# Altium footprint library Pcb_Lib_SMAQ.PcbLib: 13 footprints
Each footprint in its own frame and in the unit in brackets; x right, y up, seen from the top. Pads: shape width x height; smd on the part's side, far side on the other; paste and mask are expansions set on the pad; w line width, h text height; cw(c..) or ccw(c..) is an arc to the next point about the centre after c.
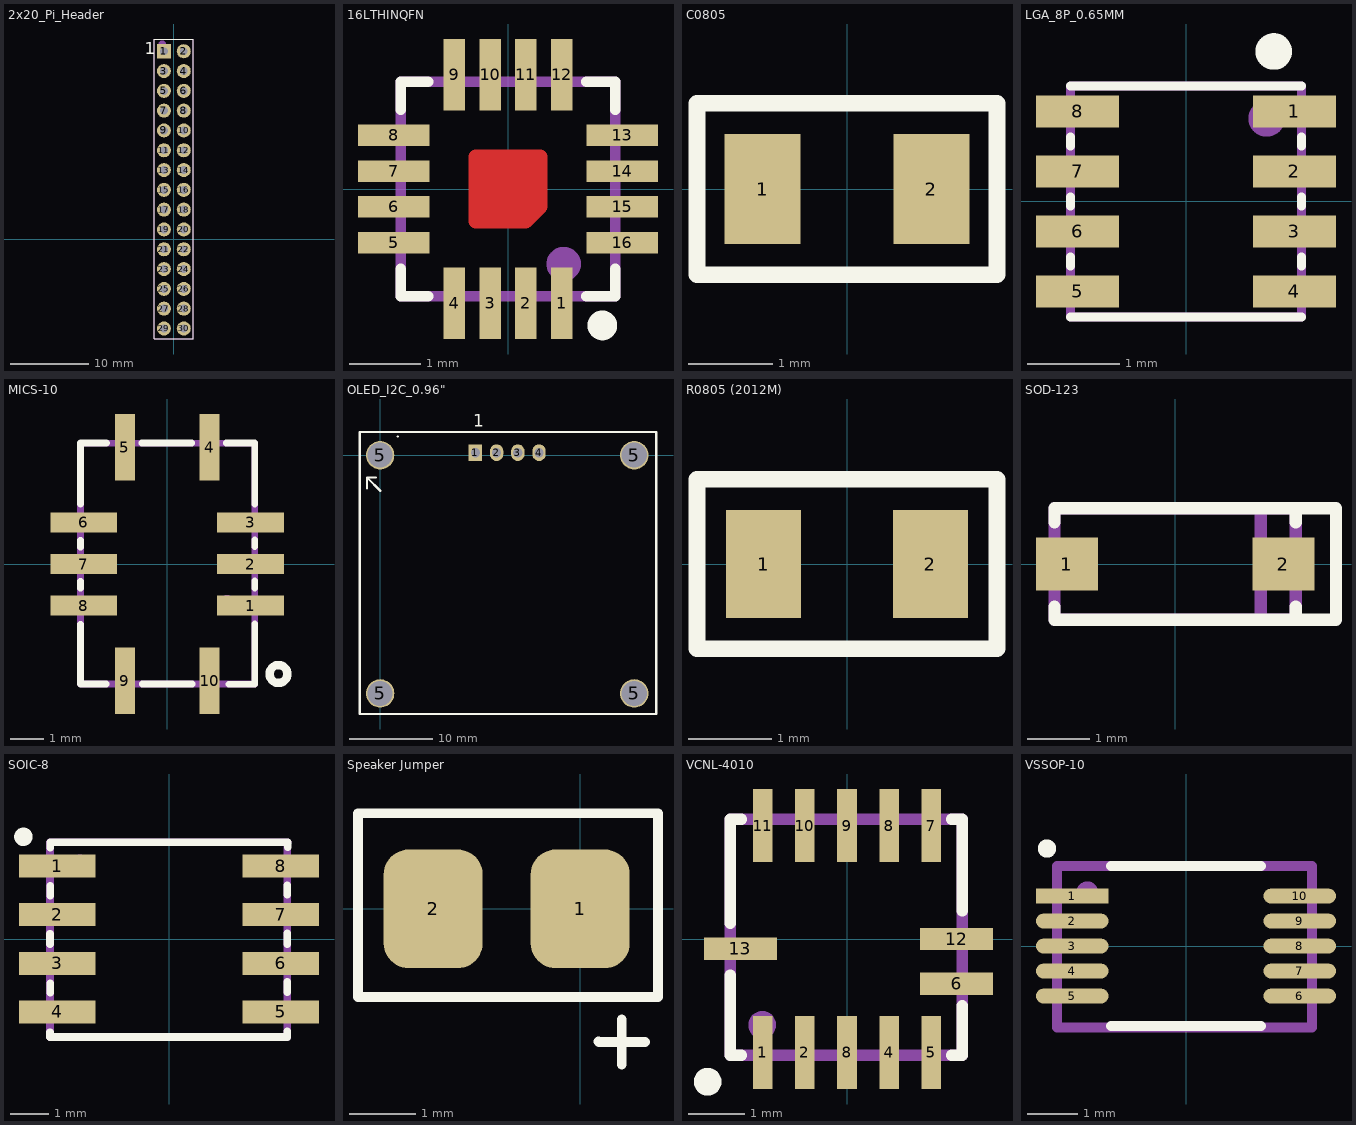
[diagram p0: the footprints below, top view; thin cyan lines are the x and y axes]

## 2x20_Pi_Header [mm]
pads (30):
  rect 1.8x1.8 hole 1.02: 1(-1.27,24.13)
  round 1.8 hole 1.02: 2(1.27,24.13) 3(-1.27,21.59) 4(1.27,21.59) 5(-1.27,19.05) 6(1.27,19.05) 7(-1.27,16.51) 8(1.27,16.51) 9(-1.27,13.97) 10(1.27,13.97) 11(-1.27,11.43) 12(1.27,11.43) 13(-1.27,8.89) 14(1.27,8.89) 15(-1.27,6.35) 16(1.27,6.35) 17(-1.27,3.81) 18(1.27,3.81) 19(-1.27,1.27) 20(1.27,1.27) 21(-1.27,-1.27) 22(1.27,-1.27) 23(-1.27,-3.81) 24(1.27,-3.81) 25(-1.27,-6.35) 26(1.27,-6.35) 27(-1.27,-8.89) 28(1.27,-8.89) 29(-1.27,-11.43) 30(1.27,-11.43)
Top Overlay:
  lines w0.1: -2.5,-12.76 -2.5,25.7 2.5,25.7 2.5,-12.76 -2.5,-12.76
  text "1" at -3.746,23.754 h1.52
Assembly:
  circle w0.7: c-1.5,25 r0.15
  lines w0.1: -2.5,-12.78 2.5,-12.78 2.5,25.7 -2.5,25.7 -2.5,-12.78
  text ".Designator" at 1.576,-7.176 h3
3D body "30Pin.SLDPRT": height 6.55, standoff -11.5, extent -2.5,-13.02 2.5,25.38

## 16LTHINQFN [mm]
pads (16):
  rect 0.3x1 smd mask+0.02: 1(0.75,-1.6) 2(0.25,-1.6) 3(-0.25,-1.6) 4(-0.75,-1.6) 9(-0.75,1.6) 10(-0.25,1.6) 11(0.25,1.6) 12(0.75,1.6)
  rect 1x0.3 smd mask+0.02: 5(-1.6,-0.75) 6(-1.6,-0.25) 7(-1.6,0.25) 8(-1.6,0.75) 13(1.6,0.75) 14(1.6,0.25) 15(1.6,-0.25) 16(1.6,-0.75)
Top Layer:
  rectangle: -0.38,-0.4 0.37,0.39
  lines w0.2: -0.45,-0.45 0.25,-0.45 0.45,-0.25 0.45,0.45 -0.45,0.45 -0.45,-0.45 ; -0.45,-0.45 -0.45,-0.45
Top Overlay:
  circle w0.254: c1.32,-1.91 r0.081
  lines w0.15: -1.5,-1.12 -1.5,-1.5 -1.12,-1.5 ; -1.5,1.11 -1.5,1.5 -1.12,1.5 ; 1.1,-1.5 1.5,-1.5 1.5,-1.12 ; 1.1,1.5 1.5,1.5 1.5,1.11
Assembly:
  circle w0.254: c0.78,-1.05 r0.114
  lines w0.15: -1.5,-1.5 -1.31,-1.5 1.5,-1.5 1.5,1.5 -1.5,1.5 -1.5,-1.5
  text ".Designator" at -1.07,-0.337 h1
3D body "TQFN16-1.STEP": height 0.81, standoff 0.01, extent -1.5,-1.5 1.5,1.5

## C0805 [mm]
pads (2):
  rect 0.9x1.3 smd: 1(-1,0) 2(1,0)
Top Overlay:
  lines w0.2: -1.778,-1.016 1.778,-1.016 1.778,1.016 -1.778,1.016 -1.778,-1.016
Assembly:
  lines w0.127: -1.778,-1.016 -1.778,1.016 1.778,1.016 1.778,-1.016 -1.778,-1.016
  text ".Designator" at -1.016,-0.254 h0.64
3D body "CAPC2012X94N EIA 0805.step": height 0.95, standoff 0.01, extent -1,-0.6 1,0.6

## LGA_8P_0.65MM [mm]
pads (8):
  rect 0.9x0.35 smd mask+0.015: 1(1.175,0.975) 2(1.175,0.325) 3(1.175,-0.325) 4(1.175,-0.975) 5(-1.175,-0.975) 6(-1.175,-0.325) 7(-1.175,0.325) 8(-1.175,0.975)
Top Overlay:
  circle w0.254: c0.95,1.625 r0.071
  lines w0.1: -1.25,-1.25 1.25,-1.25 ; -1.25,-0.7 -1.25,-0.6 ; -1.25,-0.05 -1.25,0.05 ; -1.25,0.6 -1.25,0.7 ; -1.25,1.25 1.25,1.25 ; 1.25,-0.7 1.25,-0.6 ; 1.25,-0.05 1.25,0.05 ; 1.25,0.6 1.25,0.7
Assembly:
  circle w0.254: c0.875,0.9 r0.071
  lines w0.1: -1.25,-1.25 -1.25,1.25 1.25,1.25 1.25,-1.25 -1.25,-1.25
  text ".Designator" at -0.55,-0.3 h0.75
3D body "User Library-Bosch_BME280.step": height 0.94, standoff 0.01, extent -1.25,-1.25 1.25,1.25

## MICS-10 [mm]
pads (10):
  rect 2x0.6 smd: 1(2.5,-1.25) 2(2.5,0) 3(2.5,1.25) 6(-2.5,1.25) 7(-2.5,0) 8(-2.5,-1.25)
  rect 0.6x2 smd: 4(1.27,3.5) 5(-1.27,3.5) 9(-1.27,-3.5) 10(1.27,-3.5)
Top Overlay:
  circle w0.254: c3.34,-3.3 r0.269
  lines w0.2: -2.6,-1.807 -2.6,-3.6 -1.83,-3.6 ; -2.6,-0.73 -2.6,-0.52 ; -2.6,0.505 -2.6,0.715 ; -2.6,1.8 -2.6,3.63 -1.82,3.63 ; -0.76,3.63 0.74,3.63 ; -0.75,-3.6 0.75,-3.6 ; 1.77,3.63 2.63,3.63 2.63,1.79 ; 1.85,-3.61 2.63,-3.61 2.63,-1.789 ; 2.63,-0.72 2.63,-0.51 ; 2.63,0.52 2.63,0.73
Assembly:
  circle w0.254: c1.79,-1.19 r0.13
  lines w0.2: -2.6,-3.6 -2.6,3.62 2.593,3.62 2.63,3.583 2.63,-3.597 2.627,-3.6 -2.6,-3.6
  text ".Designator" at -0.476,0.032 h1.52
3D body "User Library-MICS-4514.step": height 1.6, standoff -0.01, extent -2.486,-3.482 2.514,3.518

## OLED_I2C_0.96" [mm]
pads (8):
  rect 1.6x2 hole 1.1: 1(11.39,0.3)
  oval 1.6x2 hole 1.1: 2(13.93,0.3) 3(16.47,0.3) 4(19.01,0.3)
  round 3.4 hole 3 unplated: 5(0,-28.5) 5(0,0) 5(30.4,-28.5) 5(30.4,0)
Top Overlay:
  lines w0.254: -1.587,-3.963 -1.587,-2.688 -0.487,-2.688 ; -1.562,-2.688 0.038,-4.288 ; 2.09,2.225 2.115,2.225 ; -2.44,-30.96 33.03,-30.96 33.03,2.775 -2.44,2.775 -2.44,-30.96
  text "1" at 11.165,3.425 h1.5
3D body "User Library-128x64I2COLEDDisplayAdafruit.step": height 10.02, standoff -0.83, extent 1.84,-25.285 28.54,2.575

## PCBComponent_1 [mm]

## R0805 (2012M) [mm]
pads (2):
  rect 0.9x1.3 smd: 1(-1,0) 2(1,0)
Top Overlay:
  lines w0.2: -1.8,-1.016 -1.8,1.016 1.8,1.016 1.8,-1.016 -1.8,-1.016
Assembly:
  lines w0.127: -1.8,-1.016 1.8,-1.016 1.8,1.016 -1.8,1.016 -1.8,-1.016
  text ".Designator" at -0.889,-0.381 h0.76
3D body "User Library-Chip Resistor2.step": height 0.71, standoff 0.01, extent -1,-0.6 1,0.6

## SOD-123 [mm]
pads (2):
  rect 1x0.85 smd: 1(-1.75,0) 2(1.75,0)
Top Overlay:
  lines w0.2: -1.95,-0.69 -1.95,-0.9 1.95,-0.9 ; -1.95,0.675 -1.95,0.9 1.95,0.9 ; 1.95,-0.69 1.95,-0.9 ; 1.95,0.675 1.95,0.9 ; 1.95,-0.9 2.088,-0.9 2.6,-0.9 2.6,0.9 1.95,0.9
Assembly:
  lines w0.2: 1.381,-0.895 1.381,0.9 ; 1.95,-0.763 1.95,0.788 ; 1.95,-0.625 1.95,-0.9 -1.95,-0.9 -1.95,-0.625 -1.95,0.675 -1.95,0.9 1.95,0.9 1.95,0.675
  text ".Designator" at -0.86,-0.33 h0.9
3D body "CircuitWorks-SOD123.step": height 1.28, standoff 0.01, extent -1.85,-0.8 1.85,0.8

## SOIC-8 [mm]
pads (8):
  rect 2x0.6 smd mask+0.07: 1(-2.93,1.91) 2(-2.93,0.64) 3(-2.93,-0.64) 4(-2.93,-1.91) 5(2.93,-1.91) 6(2.93,-0.64) 7(2.93,0.64) 8(2.93,1.91)
Top Overlay:
  circle w0.254: c-3.82,2.68 r0.114
  lines w0.2: -3.12,-2.44 -3.12,-2.57 3.1,-2.57 3.1,-2.42 ; -3.12,-0.13 -3.12,0.14 ; -3.11,-1.41 -3.11,-1.16 ; -3.11,1.14 -3.11,1.4 ; -3.11,2.39 -3.11,2.54 3.11,2.54 3.11,2.41 ; 3.1,-1.39 3.1,-1.12 ; 3.1,-0.14 3.1,0.15 ; 3.1,1.16 3.1,1.41
Assembly:
  lines w0.2: -3.12,-2.57 -3.12,2.53 -3.11,2.54 2.91,2.54 3.11,2.54 3.1,2.53 3.1,-2.57 -3.12,-2.57
  lines w0.254: -2.21,1.96 cw(c-2.335,1.96) -2.21,1.97
  text ".Designator" at -1.206,-0.738 h1.52
3D body "User Library-so8-3.step": height 1.7, standoff 0, extent -3,-2.45 3,2.45

## Speaker Jumper [mm]
pads (2):
  rrect50% 1.5x1.8 smd: 1(0,0) 2(-2.23,0)
Top Overlay:
  lines w0.15: 0.28,-2.015 0.285,-2.02 0.63,-2.02 0.98,-2.02 ; 0.63,-2.365 0.63,-1.675 ; -3.37,-1.34 1.18,-1.34 1.18,1.45 -3.37,1.45 -3.37,-1.34

## VCNL-4010 [mm]
pads (13):
  rect 0.35x1.3 smd: 1(-1.5,-2.02) 2(-0.75,-2.02) 4(0.75,-2.02) 5(1.5,-2.02) 7(1.5,2.02) 8(0,-2.02) 8(0.75,2.02) 9(0,2.02) 10(-0.75,2.02) 11(-1.5,2.02)
  rect 1.3x0.4 smd: 6(1.95,-0.8) 12(1.95,0) 13(-1.9,-0.17)
Top Overlay:
  circle w0.254: c-2.48,-2.54 r0.12
  lines w0.2: -2.08,-0.64 -2.08,-2.07 -1.88,-2.07 ; -2.08,0.28 -2.08,2.13 -1.905,2.13 ; -1.93,2.13 -1.88,2.13 ; 1.86,-2.07 2.05,-2.07 2.05,-1.19 ; 1.86,2.13 2.05,2.13 2.05,0.5
Assembly:
  circle w0.254: c-1.51,-1.53 r0.12
  lines w0.2: -2.08,-2.07 -1.98,-2.07 2.05,-2.07 2.05,2.13 -2.08,2.13 -2.08,-2.07
  text ".Designator" at -0.866,-0.618 h1.52
3D body "VCNL4010.STEP": height 0.96, standoff 0.01, extent -1.975,-1.975 1.975,1.975

## VSSOP-10 [mm]
pads (10):
  rect 1.45x0.3 smd mask+0.02: 1(-2.275,1)
  oval 1.45x0.3 smd mask+0.02: 2(-2.275,0.5) 3(-2.275,0) 4(-2.275,-0.5) 5(-2.275,-1) 6(2.275,-1) 7(2.275,-0.5) 8(2.275,0) 9(2.275,0.5) 10(2.275,1)
Top Overlay:
  circle w0.254: c-2.78,1.95 r0.056
  lines w0.2: -1.5,-1.6 1.5,-1.6 ; -1.5,1.6 1.5,1.6
Assembly:
  circle w0.254: c-1.975,1.075 r0.09
  lines w0.2: -2.575,-1.625 2.525,-1.625 2.525,1.6 -2.575,1.6 -2.575,-1.625
  text ".Designator" at -1.121,-0.588 h1.52
3D body "User Library-DGS0010A.STEP": height 1.1, standoff 0, extent -2.462,-1.5 2.463,1.5